# Altium schematic symbol library Connectors.SchLib: 21 symbols
Pins are listed as number, name and electrical type; pins without a type are passive.

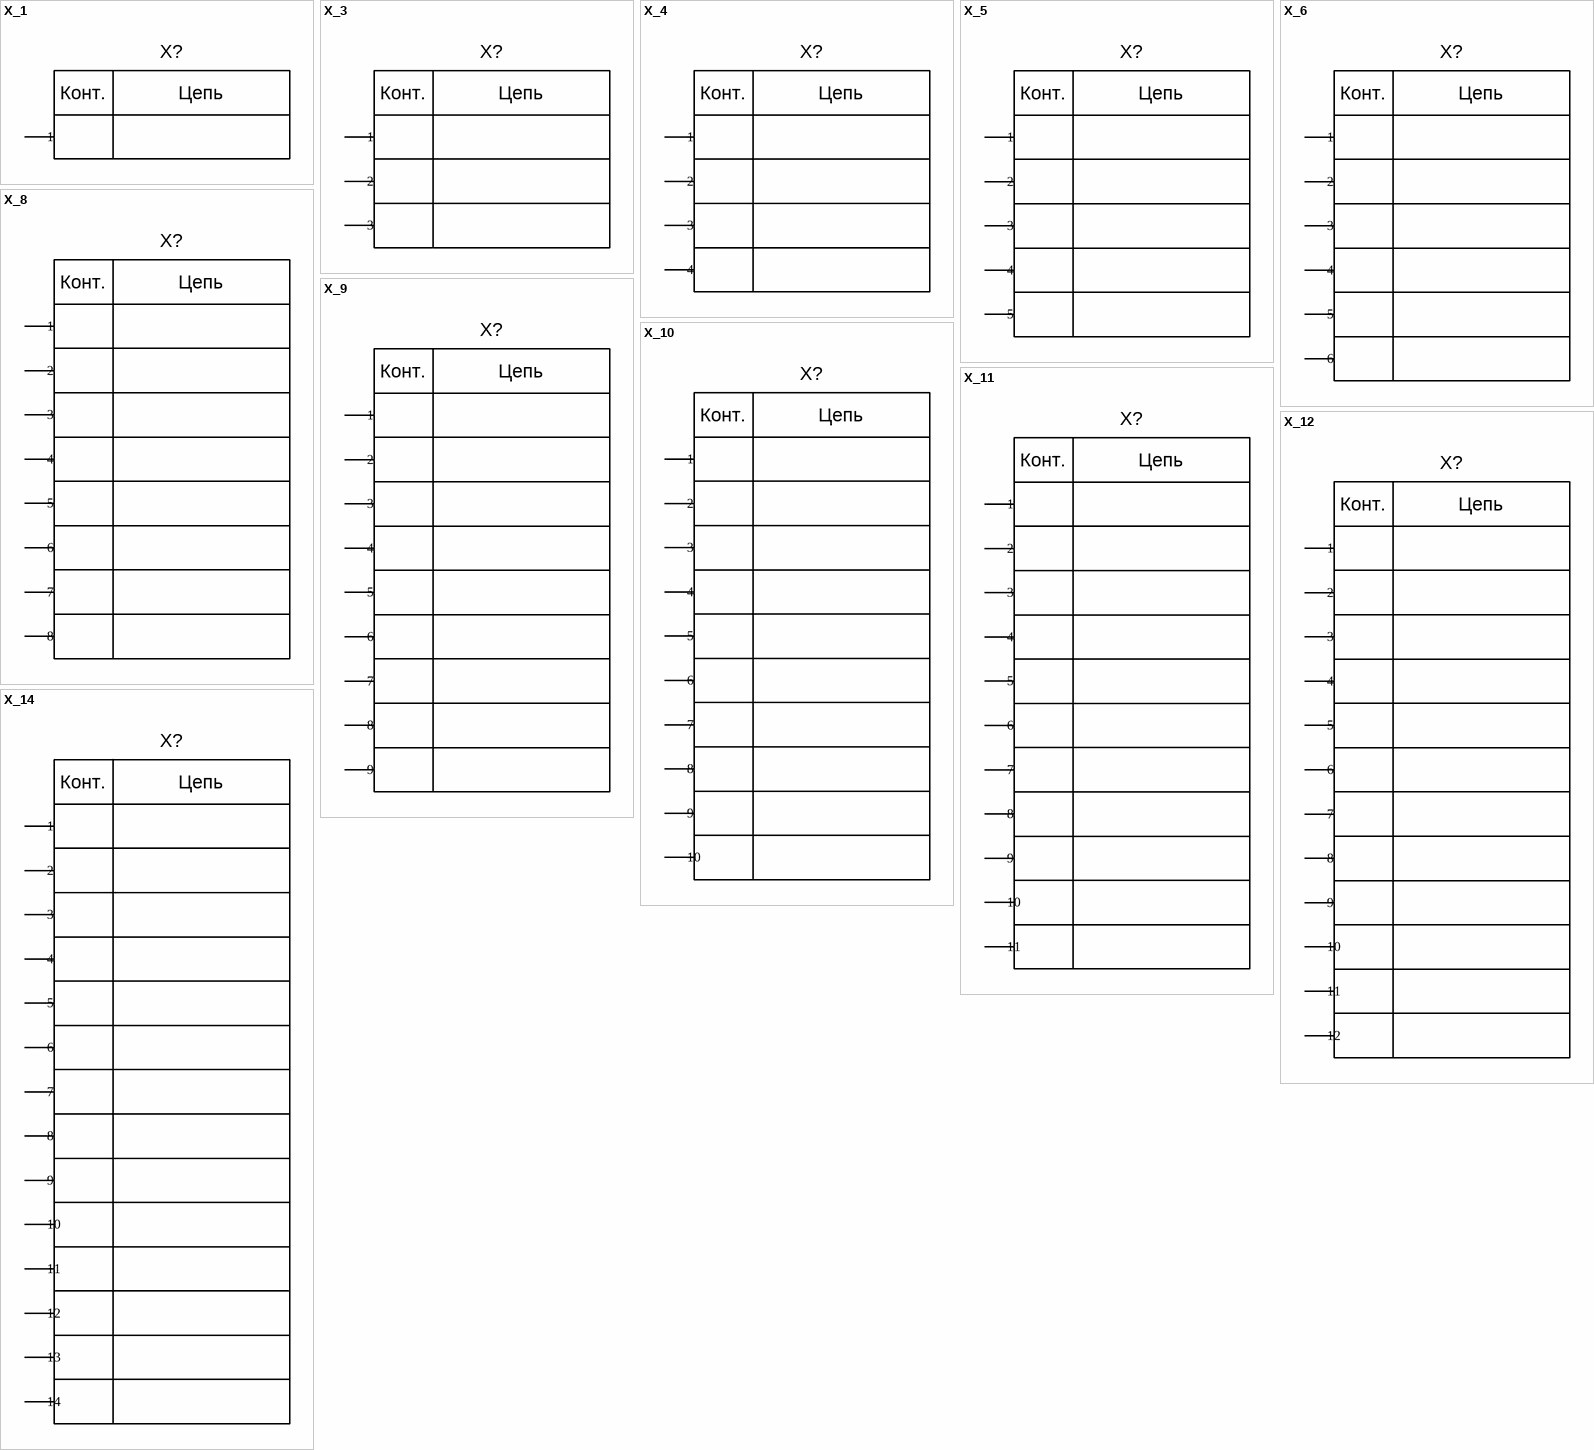
[diagram p0: symbols X_1 to X_14]

## X_1
designator X?
pins: 1
text: Конт.; Цепь

## X_3
designator X?
pins: 1, 2, 3
text: Конт.; Цепь

## X_4
designator X?
footprint YX-XH-4
footprint USB_TypeB_Tyco
pins: 1, 2, 3, 4
text: Конт.; Цепь

## X_5
designator X?
pins: 1, 2, 3, 4, 5
text: Конт.; Цепь

## X_6
designator X?
footprint PLD-6
pins: 1, 2, 3, 4, 5, 6
text: Конт.; Цепь

## X_8
designator X?
pins: 1, 2, 3, 4, 5, 6, 7, 8
text: Конт.; Цепь

## X_9
designator X?
pins: 1, 2, 3, 4, 5, 6, 7, 8, 9
text: Конт.; Цепь

## X_10
designator X?
pins: 1, 2, 3, 4, 5, 6, 7, 8, 9, 10
text: Конт.; Цепь

## X_11
designator X?
pins: 1, 2, 3, 4, 5, 6, 7, 8, 9, 10, 11
text: Конт.; Цепь

## X_12
designator X?
pins: 1, 2, 3, 4, 5, 6, 7, 8, 9, 10, 11, 12
text: Конт.; Цепь

## X_14
designator X?
pins: 1, 2, 3, 4, 5, 6, 7, 8, 9, 10, 11, 12, 13, 14
text: Конт.; Цепь

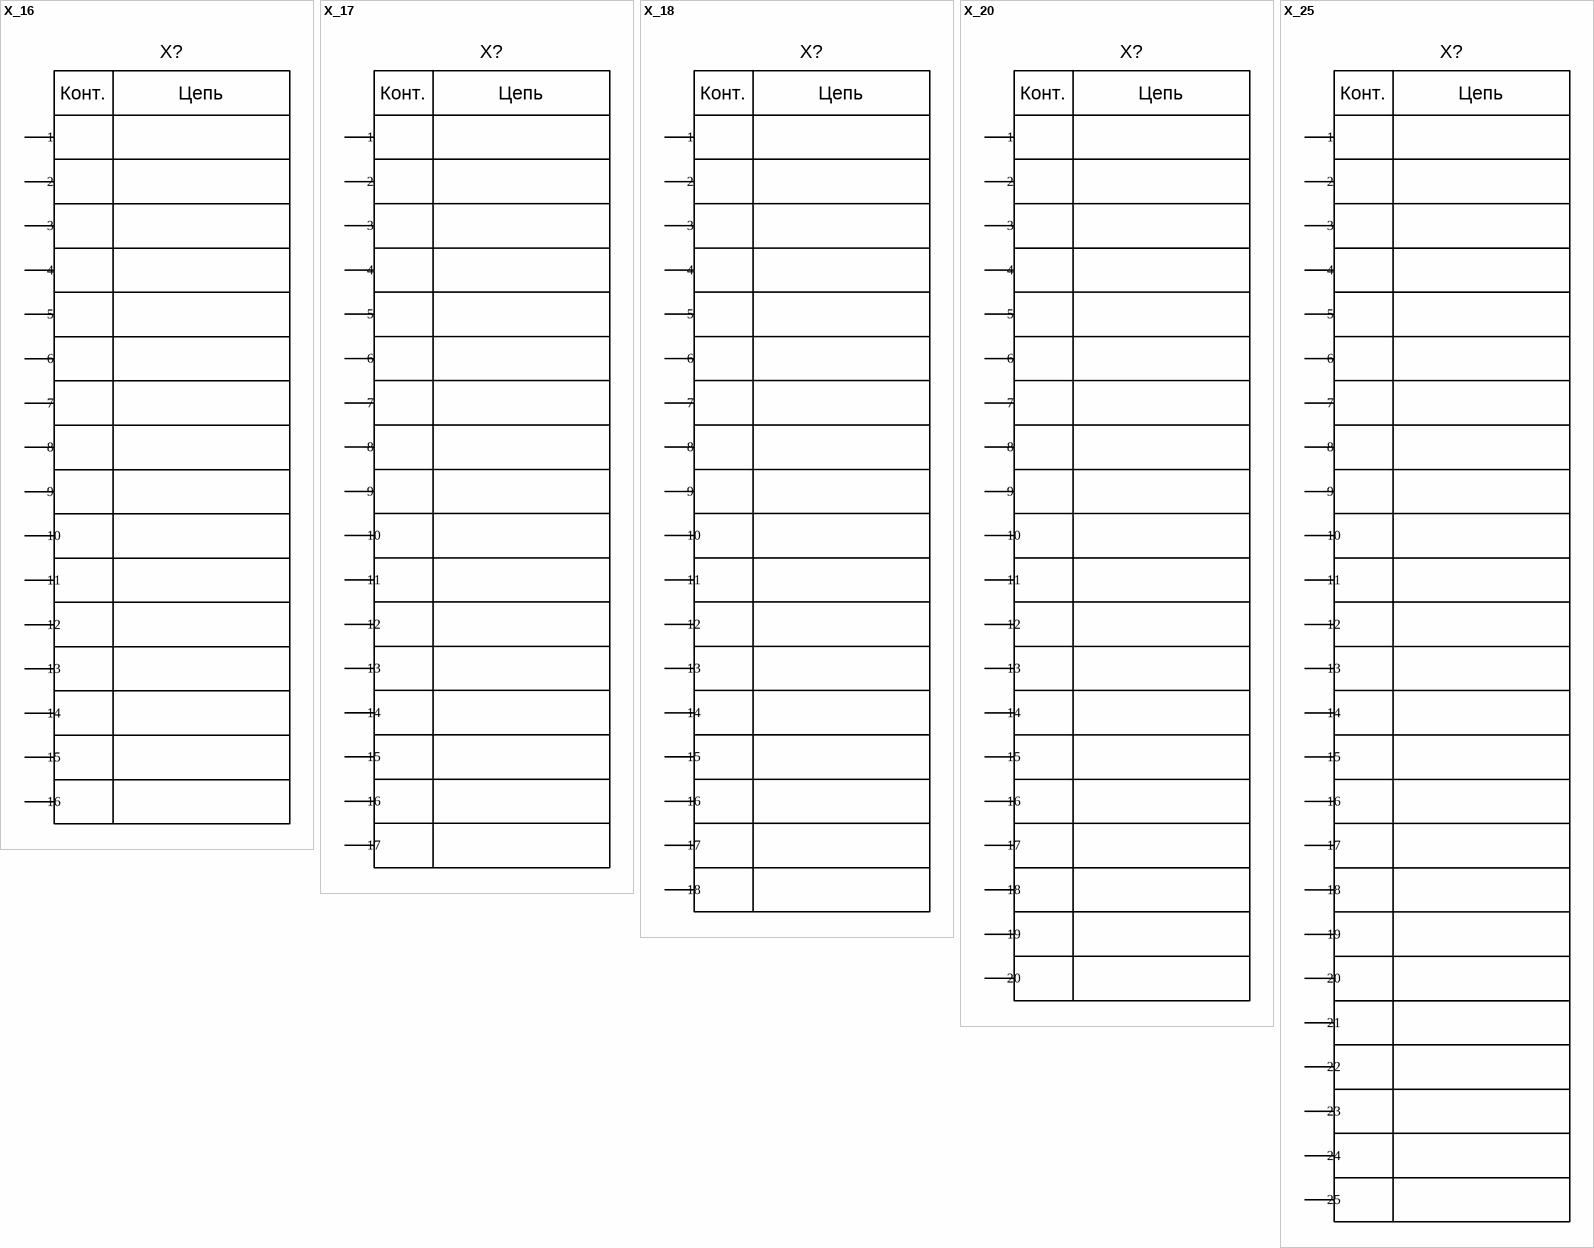
[diagram p1: symbols X_16 to X_25]

## X_16
designator X?
pins: 1, 2, 3, 4, 5, 6, 7, 8, 9, 10, 11, 12, 13, 14, 15, 16
text: Конт.; Цепь

## X_17
designator X?
pins: 1, 2, 3, 4, 5, 6, 7, 8, 9, 10, 11, 12, 13, 14, 15, 16, 17
text: Конт.; Цепь

## X_18
designator X?
pins: 1, 2, 3, 4, 5, 6, 7, 8, 9, 10, 11, 12, 13, 14, 15, 16, 17, 18
text: Конт.; Цепь

## X_20
designator X?
pins: 1, 2, 3, 4, 5, 6, 7, 8, 9, 10, 11, 12, 13, 14, 15, 16, 17, 18, 19, 20
text: Конт.; Цепь

## X_25
designator X?
pins: 1, 2, 3, 4, 5, 6, 7, 8, 9, 10, 11, 12, 13, 14, 15, 16, 17, 18, 19, 20, 21, 22, 23, 24, 25
text: Конт.; Цепь

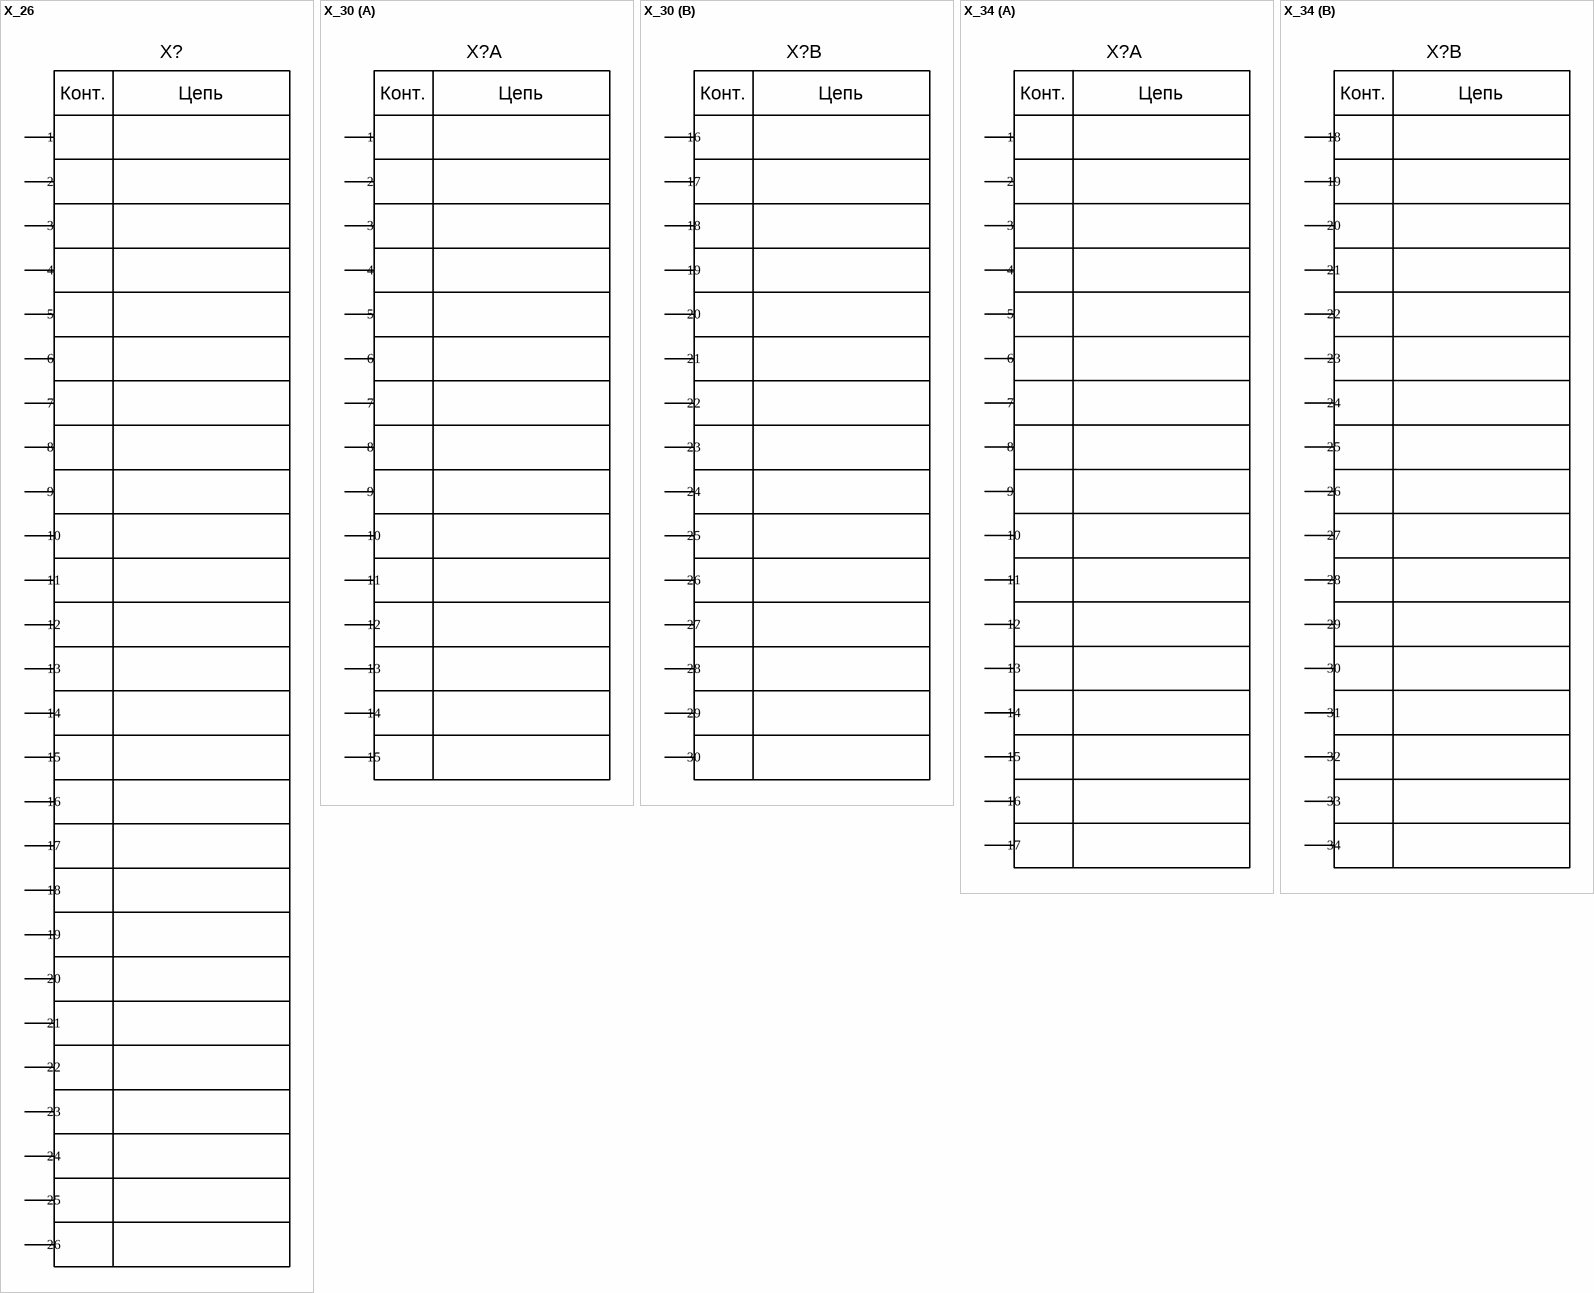
[diagram p2: symbols X_26 to X_34]

## X_26
designator X?
pins: 1, 2, 3, 4, 5, 6, 7, 8, 9, 10, 11, 12, 13, 14, 15, 16, 17, 18, 19, 20, 21, 22, 23, 24, 25, 26
text: Конт.; Цепь

## X_30
designator X?
part A pins: 1, 2, 3, 4, 5, 6, 7, 8, 9, 10, 11, 12, 13, 14, 15
part B pins: 16, 17, 18, 19, 20, 21, 22, 23, 24, 25, 26, 27, 28, 29, 30
part A text: Конт.; Цепь
part B text: Конт.; Цепь

## X_34
designator X?
part A pins: 1, 2, 3, 4, 5, 6, 7, 8, 9, 10, 11, 12, 13, 14, 15, 16, 17
part B pins: 18, 19, 20, 21, 22, 23, 24, 25, 26, 27, 28, 29, 30, 31, 32, 33, 34
part A text: Конт.; Цепь
part B text: Конт.; Цепь

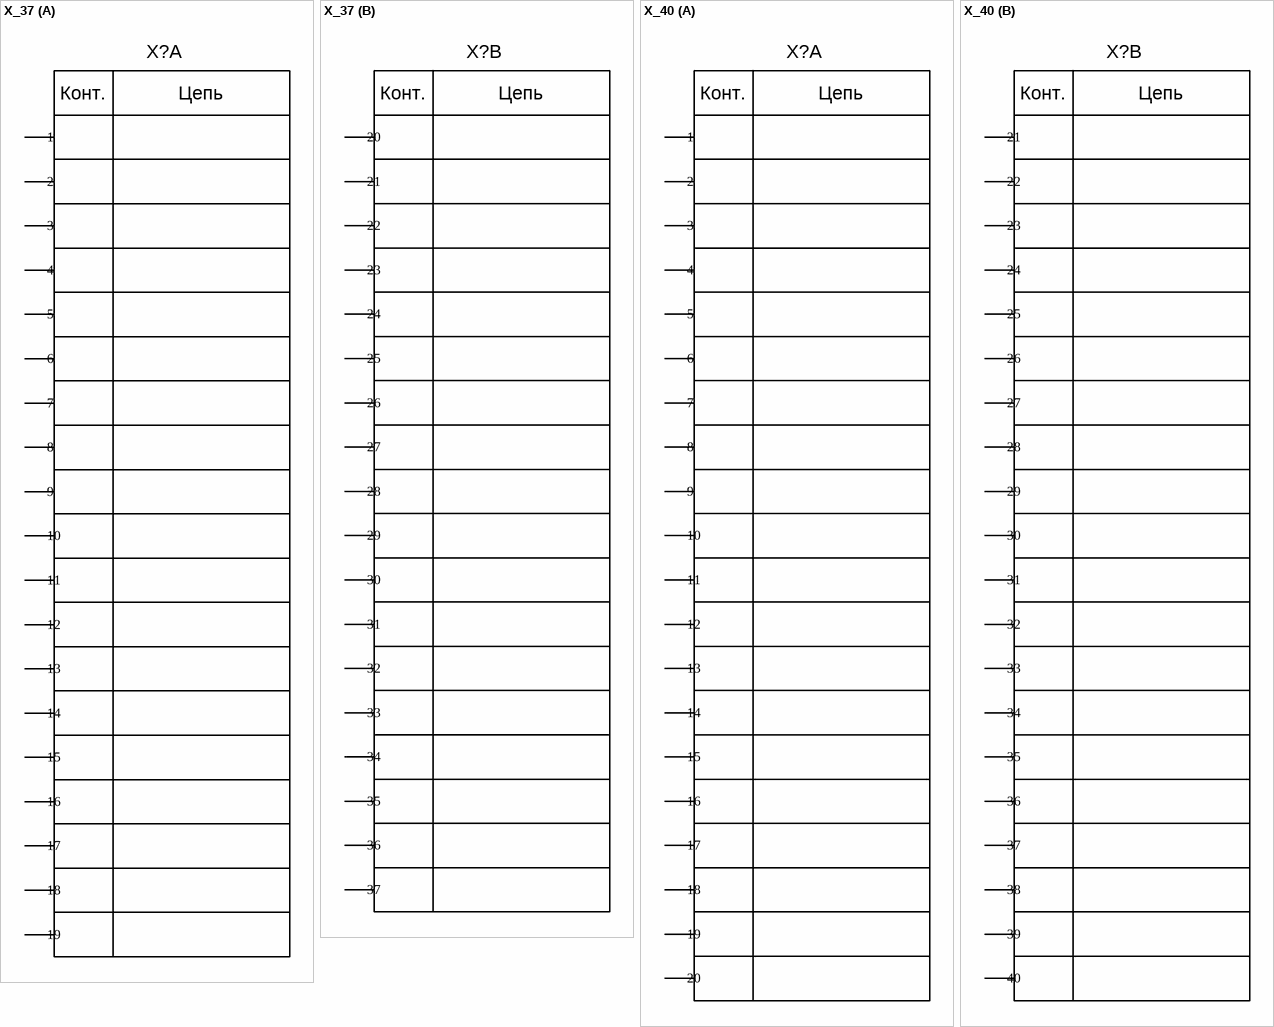
[diagram p3: symbols X_37 to X_40]

## X_37
designator X?
part A pins: 1, 2, 3, 4, 5, 6, 7, 8, 9, 10, 11, 12, 13, 14, 15, 16, 17, 18, 19
part B pins: 20, 21, 22, 23, 24, 25, 26, 27, 28, 29, 30, 31, 32, 33, 34, 35, 36, 37
part A text: Конт.; Цепь
part B text: Конт.; Цепь

## X_40
designator X?
part A pins: 1, 2, 3, 4, 5, 6, 7, 8, 9, 10, 11, 12, 13, 14, 15, 16, 17, 18, 19, 20
part B pins: 21, 22, 23, 24, 25, 26, 27, 28, 29, 30, 31, 32, 33, 34, 35, 36, 37, 38, 39, 40
part A text: Конт.; Цепь
part B text: Конт.; Цепь